# Altium integrated library LT Operational Amplifier.IntLib: 1835 symbols (part 15 of 39)
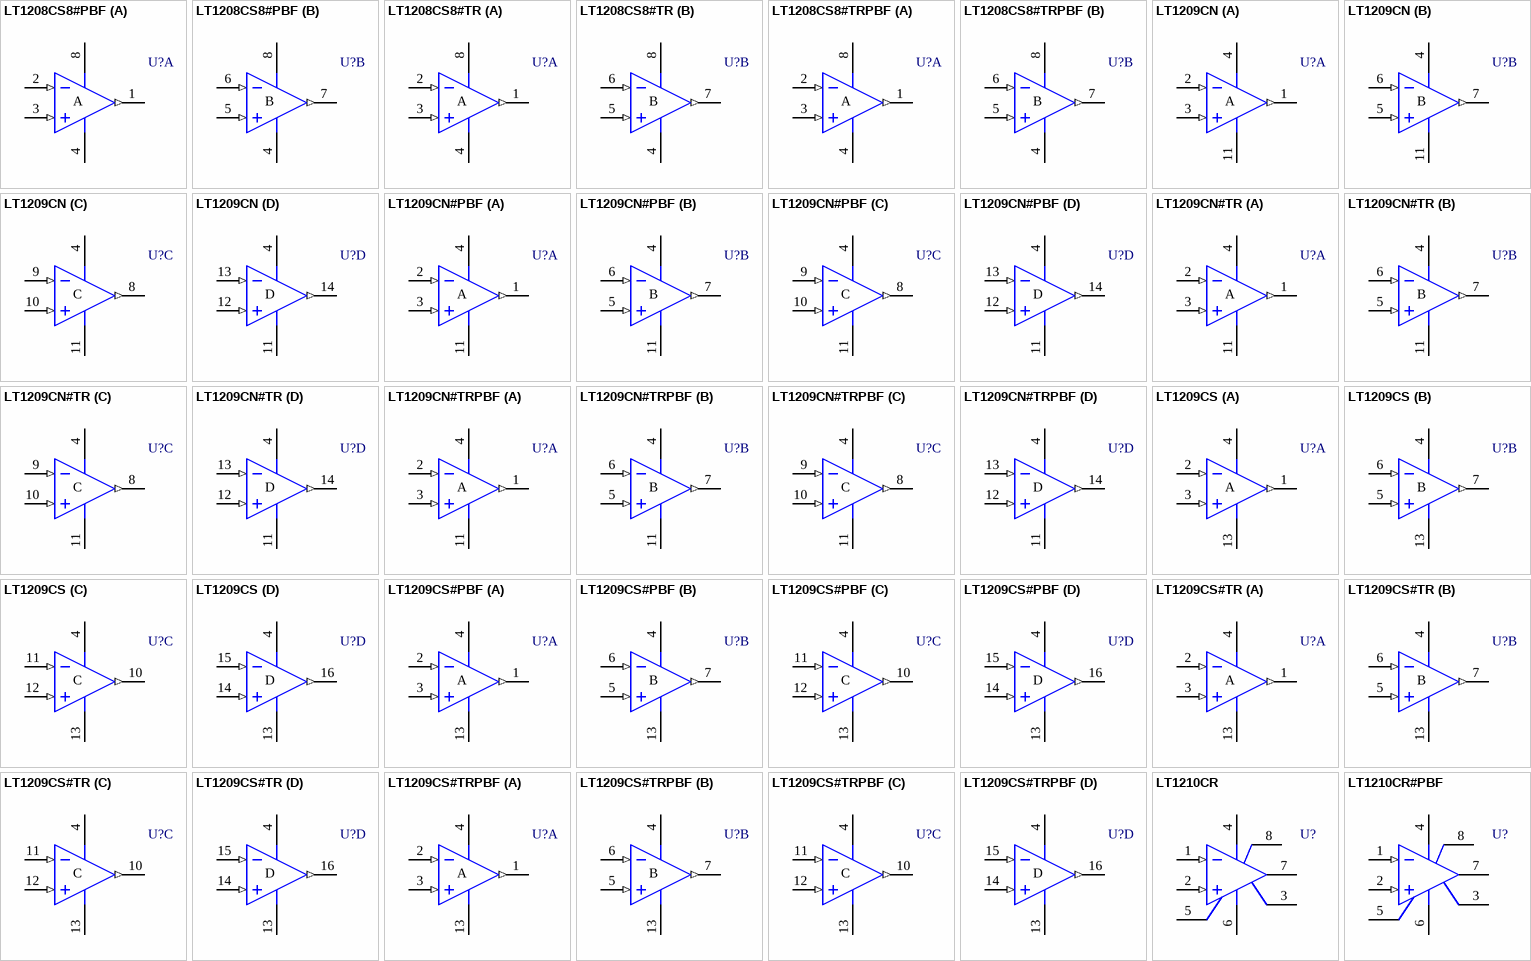
[diagram p101: symbols LT1208CS8#PBF to LT1210CR#PBF]

## LT1208CS8#TR
designator U?
Dual 45MHz, 400V/µs Operational Amplifier; Note: 726; Published: 8-Jun-2000; LatestRevisionDate: 13-Apr-2006; LatestRevisionNote: IPC-7351 Footprint Added.; DatasheetVersion: 1996; PackageReference: S8; Publisher: Altium Limited; PackageDescription: 8-Pin Small Outline Integrated Circuit 1.27 mm Pitch; Code_JEDEC: MS-012-AA; Code_IPC: SOIC127P600-8; ComponentLink1Description: Manufacturer Link; ComponentLink1URL: http://www.linear.com/; ComponentLink2Description: Datasheet; ComponentLink2URL: http://www.linear.com/pc/downloadDocument.do?navId=H0,C1,C1154,C1009,C1022,P1405,D2683
footprint S8_N (SOIC, 8-Leads, Body 4.9x3.9mm, Pitch 1.27mm, IPC Medium Density)
footprint S8_L (SOIC, 8-Leads, Body 4.9x3.9mm, Pitch 1.27mm, IPC High Density)
footprint S8_M (SOIC, 8-Leads, Body 4.9x3.9mm, Pitch 1.27mm, IPC Low Density)
3D model S8 (8-Pin Small Outline Integrated Circuit 1.27 mm Pitch)
simulation model LT1208 (SUBCKT)
pins on every part: 4 V- (power), 8 V+ (power)
part A pins: 1 OUT (out), 2 IN- (in), 3 IN+ (in)
part B pins: 5 IN+ (in), 6 IN- (in), 7 OUT (out)
part A text: A
part B text: B

## LT1208CS8#TRPBF
designator U?
Dual 45MHz, 400V/µs Operational Amplifier; Note: 728; Published: 8-Jun-2000; LatestRevisionDate: 13-Apr-2006; LatestRevisionNote: IPC-7351 Footprint Added.; DatasheetVersion: 1996; PackageReference: S8; Publisher: Altium Limited; PackageDescription: 8-Pin Small Outline Integrated Circuit 1.27 mm Pitch; Code_JEDEC: MS-012-AA; Code_IPC: SOIC127P600-8; ComponentLink1Description: Manufacturer Link; ComponentLink1URL: http://www.linear.com/; ComponentLink2Description: Datasheet; ComponentLink2URL: http://www.linear.com/pc/downloadDocument.do?navId=H0,C1,C1154,C1009,C1022,P1405,D2683
footprint S8_N (SOIC, 8-Leads, Body 4.9x3.9mm, Pitch 1.27mm, IPC Medium Density)
footprint S8_L (SOIC, 8-Leads, Body 4.9x3.9mm, Pitch 1.27mm, IPC High Density)
footprint S8_M (SOIC, 8-Leads, Body 4.9x3.9mm, Pitch 1.27mm, IPC Low Density)
3D model S8 (8-Pin Small Outline Integrated Circuit 1.27 mm Pitch)
simulation model LT1208 (SUBCKT)
pins on every part: 4 V- (power), 8 V+ (power)
part A pins: 1 OUT (out), 2 IN- (in), 3 IN+ (in)
part B pins: 5 IN+ (in), 6 IN- (in), 7 OUT (out)
part A text: A
part B text: B

## LT1209CN
designator U?
Quad 45MHz, 400V/µs Operational Amplifier; Note: 729; Published: 8-Jun-2000; LatestRevisionDate: 29-May-2009; LatestRevisionNote: Component Body Added.; DatasheetVersion: 1996; PackageVersion: N14 1103; PackageReference: N14; Publisher: Altium Limited; PackageDescription: DIP, Plastic, 14-Pin, Row Spacing 7.62 mm, Pitch 2.54 mm; ComponentLink1Description: Manufacturer Link; ComponentLink1URL: http://www.linear.com/; ComponentLink2Description: Datasheet; ComponentLink2URL: http://www.linear.com/pc/downloadDocument.do?navId=H0,C1,C1154,C1009,C1022,P1405,D2683
footprint N14 (DIP, 14-Leads, Row Spacing 7.62mm, Pitch 2.54mm, Body 19.18x6.48mm)
3D model N14 (DIP, Plastic, 14-Pin, Row Spacing 7.62 mm, Pitch 2.54 mm)
simulation model LT1209 (SUBCKT)
pins on every part: 4 V+ (power), 11 V- (power)
part A pins: 1 OUT (out), 2 IN- (in), 3 IN+ (in)
part B pins: 5 IN+ (in), 6 IN- (in), 7 OUT (out)
part C pins: 8 OUT (out), 9 IN- (in), 10 IN+ (in)
part D pins: 12 IN+ (in), 13 IN- (in), 14 OUT (out)
part A text: A
part B text: B
part C text: C
part D text: D

## LT1209CN#PBF
designator U?
Quad 45MHz, 400V/µs Operational Amplifier; Note: 731; Published: 8-Jun-2000; LatestRevisionDate: 29-May-2009; LatestRevisionNote: Component Body Added.; DatasheetVersion: 1996; PackageVersion: N14 1103; PackageReference: N14; Publisher: Altium Limited; PackageDescription: DIP, Plastic, 14-Pin, Row Spacing 7.62 mm, Pitch 2.54 mm; ComponentLink1Description: Manufacturer Link; ComponentLink1URL: http://www.linear.com/; ComponentLink2Description: Datasheet; ComponentLink2URL: http://www.linear.com/pc/downloadDocument.do?navId=H0,C1,C1154,C1009,C1022,P1405,D2683
footprint N14 (DIP, 14-Leads, Row Spacing 7.62mm, Pitch 2.54mm, Body 19.18x6.48mm)
3D model N14 (DIP, Plastic, 14-Pin, Row Spacing 7.62 mm, Pitch 2.54 mm)
simulation model LT1209 (SUBCKT)
pins on every part: 4 V+ (power), 11 V- (power)
part A pins: 1 OUT (out), 2 IN- (in), 3 IN+ (in)
part B pins: 5 IN+ (in), 6 IN- (in), 7 OUT (out)
part C pins: 8 OUT (out), 9 IN- (in), 10 IN+ (in)
part D pins: 12 IN+ (in), 13 IN- (in), 14 OUT (out)
part A text: A
part B text: B
part C text: C
part D text: D

## LT1209CN#TR
designator U?
Quad 45MHz, 400V/µs Operational Amplifier; Note: 730; Published: 8-Jun-2000; LatestRevisionDate: 29-May-2009; LatestRevisionNote: Component Body Added.; DatasheetVersion: 1996; PackageVersion: N14 1103; PackageReference: N14; Publisher: Altium Limited; PackageDescription: DIP, Plastic, 14-Pin, Row Spacing 7.62 mm, Pitch 2.54 mm; ComponentLink1Description: Manufacturer Link; ComponentLink1URL: http://www.linear.com/; ComponentLink2Description: Datasheet; ComponentLink2URL: http://www.linear.com/pc/downloadDocument.do?navId=H0,C1,C1154,C1009,C1022,P1405,D2683
footprint N14 (DIP, 14-Leads, Row Spacing 7.62mm, Pitch 2.54mm, Body 19.18x6.48mm)
3D model N14 (DIP, Plastic, 14-Pin, Row Spacing 7.62 mm, Pitch 2.54 mm)
simulation model LT1209 (SUBCKT)
pins on every part: 4 V+ (power), 11 V- (power)
part A pins: 1 OUT (out), 2 IN- (in), 3 IN+ (in)
part B pins: 5 IN+ (in), 6 IN- (in), 7 OUT (out)
part C pins: 8 OUT (out), 9 IN- (in), 10 IN+ (in)
part D pins: 12 IN+ (in), 13 IN- (in), 14 OUT (out)
part A text: A
part B text: B
part C text: C
part D text: D

## LT1209CN#TRPBF
designator U?
Quad 45MHz, 400V/µs Operational Amplifier; Note: 732; Published: 8-Jun-2000; LatestRevisionDate: 29-May-2009; LatestRevisionNote: Component Body Added.; DatasheetVersion: 1996; PackageVersion: N14 1103; PackageReference: N14; Publisher: Altium Limited; PackageDescription: DIP, Plastic, 14-Pin, Row Spacing 7.62 mm, Pitch 2.54 mm; ComponentLink1Description: Manufacturer Link; ComponentLink1URL: http://www.linear.com/; ComponentLink2Description: Datasheet; ComponentLink2URL: http://www.linear.com/pc/downloadDocument.do?navId=H0,C1,C1154,C1009,C1022,P1405,D2683
footprint N14 (DIP, 14-Leads, Row Spacing 7.62mm, Pitch 2.54mm, Body 19.18x6.48mm)
3D model N14 (DIP, Plastic, 14-Pin, Row Spacing 7.62 mm, Pitch 2.54 mm)
simulation model LT1209 (SUBCKT)
pins on every part: 4 V+ (power), 11 V- (power)
part A pins: 1 OUT (out), 2 IN- (in), 3 IN+ (in)
part B pins: 5 IN+ (in), 6 IN- (in), 7 OUT (out)
part C pins: 8 OUT (out), 9 IN- (in), 10 IN+ (in)
part D pins: 12 IN+ (in), 13 IN- (in), 14 OUT (out)
part A text: A
part B text: B
part C text: C
part D text: D

## LT1209CS
designator U?
Quad 45MHz, 400V/µs Operational Amplifier; Note: Pins 8 and 9 are NC (not internally connected) pins and are not drawn.; Note: 733; Published: 8-Jun-2000; LatestRevisionDate: 13-Apr-2006; LatestRevisionNote: IPC-7351 Footprint Added.; DatasheetVersion: 1996; PackageVersion: S16 0502; PackageReference: S16; Publisher: Altium Limited; PackageDescription: 16-Pin Plastic Small Outline Integrated Circuit 1.27 mm Pitch; Code_JEDEC: MS-012-AC; Code_IPC: SOIC127P600-16; ComponentLink1Description: Manufacturer Link; ComponentLink1URL: http://www.linear.com/; ComponentLink2Description: Datasheet; ComponentLink2URL: http://www.linear.com/pc/downloadDocument.do?navId=H0,C1,C1154,C1009,C1022,P1405,D2683
footprint S16_N (SOIC, 16-Leads, Body 9.9x3.9mm, Pitch 1.27mm, IPC Medium Density)
footprint S16_L (SOIC, 16-Leads, Body 9.9x3.9mm, Pitch 1.27mm, IPC High Density)
footprint S16_M (SOIC, 16-Leads, Body 9.9x3.9mm, Pitch 1.27mm, IPC Low Density)
3D model S16 (16-Pin Plastic Small Outline Integrated Circuit 1.27 mm Pitch)
simulation model LT1209 (SUBCKT)
pins on every part: 4 V+ (power), 13 V- (power)
part A pins: 1 OUT (out), 2 IN- (in), 3 IN+ (in)
part B pins: 5 IN+ (in), 6 IN- (in), 7 OUT (out)
part C pins: 10 OUT (out), 11 IN- (in), 12 IN+ (in)
part D pins: 14 IN+ (in), 15 IN- (in), 16 OUT (out)
part A text: A
part B text: B
part C text: C
part D text: D

## LT1209CS#PBF
designator U?
Quad 45MHz, 400V/µs Operational Amplifier; Note: Pins 8 and 9 are NC (not internally connected) pins and are not drawn.; Note: 735; Published: 8-Jun-2000; LatestRevisionDate: 13-Apr-2006; LatestRevisionNote: IPC-7351 Footprint Added.; DatasheetVersion: 1996; PackageVersion: S16 0502; PackageReference: S16; Publisher: Altium Limited; PackageDescription: 16-Pin Plastic Small Outline Integrated Circuit 1.27 mm Pitch; Code_JEDEC: MS-012-AC; Code_IPC: SOIC127P600-16; ComponentLink1Description: Manufacturer Link; ComponentLink1URL: http://www.linear.com/; ComponentLink2Description: Datasheet; ComponentLink2URL: http://www.linear.com/pc/downloadDocument.do?navId=H0,C1,C1154,C1009,C1022,P1405,D2683
footprint S16_N (SOIC, 16-Leads, Body 9.9x3.9mm, Pitch 1.27mm, IPC Medium Density)
footprint S16_L (SOIC, 16-Leads, Body 9.9x3.9mm, Pitch 1.27mm, IPC High Density)
footprint S16_M (SOIC, 16-Leads, Body 9.9x3.9mm, Pitch 1.27mm, IPC Low Density)
3D model S16 (16-Pin Plastic Small Outline Integrated Circuit 1.27 mm Pitch)
simulation model LT1209 (SUBCKT)
pins on every part: 4 V+ (power), 13 V- (power)
part A pins: 1 OUT (out), 2 IN- (in), 3 IN+ (in)
part B pins: 5 IN+ (in), 6 IN- (in), 7 OUT (out)
part C pins: 10 OUT (out), 11 IN- (in), 12 IN+ (in)
part D pins: 14 IN+ (in), 15 IN- (in), 16 OUT (out)
part A text: A
part B text: B
part C text: C
part D text: D

## LT1209CS#TR
designator U?
Quad 45MHz, 400V/µs Operational Amplifier; Note: Pins 8 and 9 are NC (not internally connected) pins and are not drawn.; Note: 734; Published: 8-Jun-2000; LatestRevisionDate: 13-Apr-2006; LatestRevisionNote: IPC-7351 Footprint Added.; DatasheetVersion: 1996; PackageVersion: S16 0502; PackageReference: S16; Publisher: Altium Limited; PackageDescription: 16-Pin Plastic Small Outline Integrated Circuit 1.27 mm Pitch; Code_JEDEC: MS-012-AC; Code_IPC: SOIC127P600-16; ComponentLink1Description: Manufacturer Link; ComponentLink1URL: http://www.linear.com/; ComponentLink2Description: Datasheet; ComponentLink2URL: http://www.linear.com/pc/downloadDocument.do?navId=H0,C1,C1154,C1009,C1022,P1405,D2683
footprint S16_N (SOIC, 16-Leads, Body 9.9x3.9mm, Pitch 1.27mm, IPC Medium Density)
footprint S16_L (SOIC, 16-Leads, Body 9.9x3.9mm, Pitch 1.27mm, IPC High Density)
footprint S16_M (SOIC, 16-Leads, Body 9.9x3.9mm, Pitch 1.27mm, IPC Low Density)
3D model S16 (16-Pin Plastic Small Outline Integrated Circuit 1.27 mm Pitch)
simulation model LT1209 (SUBCKT)
pins on every part: 4 V+ (power), 13 V- (power)
part A pins: 1 OUT (out), 2 IN- (in), 3 IN+ (in)
part B pins: 5 IN+ (in), 6 IN- (in), 7 OUT (out)
part C pins: 10 OUT (out), 11 IN- (in), 12 IN+ (in)
part D pins: 14 IN+ (in), 15 IN- (in), 16 OUT (out)
part A text: A
part B text: B
part C text: C
part D text: D

## LT1209CS#TRPBF
designator U?
Quad 45MHz, 400V/µs Operational Amplifier; Note: Pins 8 and 9 are NC (not internally connected) pins and are not drawn.; Note: 736; Published: 8-Jun-2000; LatestRevisionDate: 13-Apr-2006; LatestRevisionNote: IPC-7351 Footprint Added.; DatasheetVersion: 1996; PackageVersion: S16 0502; PackageReference: S16; Publisher: Altium Limited; PackageDescription: 16-Pin Plastic Small Outline Integrated Circuit 1.27 mm Pitch; Code_JEDEC: MS-012-AC; Code_IPC: SOIC127P600-16; ComponentLink1Description: Manufacturer Link; ComponentLink1URL: http://www.linear.com/; ComponentLink2Description: Datasheet; ComponentLink2URL: http://www.linear.com/pc/downloadDocument.do?navId=H0,C1,C1154,C1009,C1022,P1405,D2683
footprint S16_N (SOIC, 16-Leads, Body 9.9x3.9mm, Pitch 1.27mm, IPC Medium Density)
footprint S16_L (SOIC, 16-Leads, Body 9.9x3.9mm, Pitch 1.27mm, IPC High Density)
footprint S16_M (SOIC, 16-Leads, Body 9.9x3.9mm, Pitch 1.27mm, IPC Low Density)
3D model S16 (16-Pin Plastic Small Outline Integrated Circuit 1.27 mm Pitch)
simulation model LT1209 (SUBCKT)
pins on every part: 4 V+ (power), 13 V- (power)
part A pins: 1 OUT (out), 2 IN- (in), 3 IN+ (in)
part B pins: 5 IN+ (in), 6 IN- (in), 7 OUT (out)
part C pins: 10 OUT (out), 11 IN- (in), 12 IN+ (in)
part D pins: 14 IN+ (in), 15 IN- (in), 16 OUT (out)
part A text: A
part B text: B
part C text: C
part D text: D

## LT1210CR
designator U?
1.1A, 35MHz Current Feedback Amplifier; Note: TAB is V+.; Note: 737; Published: 8-Jun-2000; LatestRevisionDate: 29-May-2009; LatestRevisionNote: IPC-7351 Footprint Added.; DatasheetVersion: 1996; PackageVersion: Jul-2005; PackageReference: R7; Publisher: Altium Limited; PackageDescription: 7-Pin Transistor Outline Package 1.27 mm Pitch, 13.9 mm Lead Span; ComponentLink1Description: Manufacturer Link; ComponentLink1URL: http://www.linear.com/; ComponentLink2Description: Datasheet; ComponentLink2URL: http://www.linear.com/pc/downloadDocument.do?navId=H0,C1,C1154,C1009,C1146,P1329,D2461
footprint R7_N (D2-PAK, 8-Leads, Body 8.9x10.2mm, Pitch 1.27mm, Lead Span 13.9mm, IPC Medium Density)
footprint R7_L (D2-PAK, 8-Leads, Body 8.9x10.2mm, Pitch 1.27mm, Lead Span 13.9mm, IPC High Density)
footprint R7_M (D2-PAK, 8-Leads, Body 8.9x10.2mm, Pitch 1.27mm, Lead Span 13.9mm, IPC Low Density)
simulation model LT1210 (SUBCKT)
pins: 1 IN- (in), 2 IN+ (in), 3 SD, 4 V+ (power), 5 CMPEN, 6 V- (power), 7 OUT (hiz), 8 TAB (power)

## LT1210CR#PBF
designator U?
1.1A, 35MHz Current Feedback Amplifier; Note: TAB is V+.; Note: 739; Published: 8-Jun-2000; LatestRevisionDate: 29-May-2009; LatestRevisionNote: IPC-7351 Footprint Added.; DatasheetVersion: 1996; PackageVersion: Jul-2005; PackageReference: R7; Publisher: Altium Limited; PackageDescription: 7-Pin Transistor Outline Package 1.27 mm Pitch, 13.9 mm Lead Span; ComponentLink1Description: Manufacturer Link; ComponentLink1URL: http://www.linear.com/; ComponentLink2Description: Datasheet; ComponentLink2URL: http://www.linear.com/pc/downloadDocument.do?navId=H0,C1,C1154,C1009,C1146,P1329,D2461
footprint R7_N (D2-PAK, 8-Leads, Body 8.9x10.2mm, Pitch 1.27mm, Lead Span 13.9mm, IPC Medium Density)
footprint R7_L (D2-PAK, 8-Leads, Body 8.9x10.2mm, Pitch 1.27mm, Lead Span 13.9mm, IPC High Density)
footprint R7_M (D2-PAK, 8-Leads, Body 8.9x10.2mm, Pitch 1.27mm, Lead Span 13.9mm, IPC Low Density)
simulation model LT1210 (SUBCKT)
pins: 1 IN- (in), 2 IN+ (in), 3 SD, 4 V+ (power), 5 CMPEN, 6 V- (power), 7 OUT (hiz), 8 TAB (power)

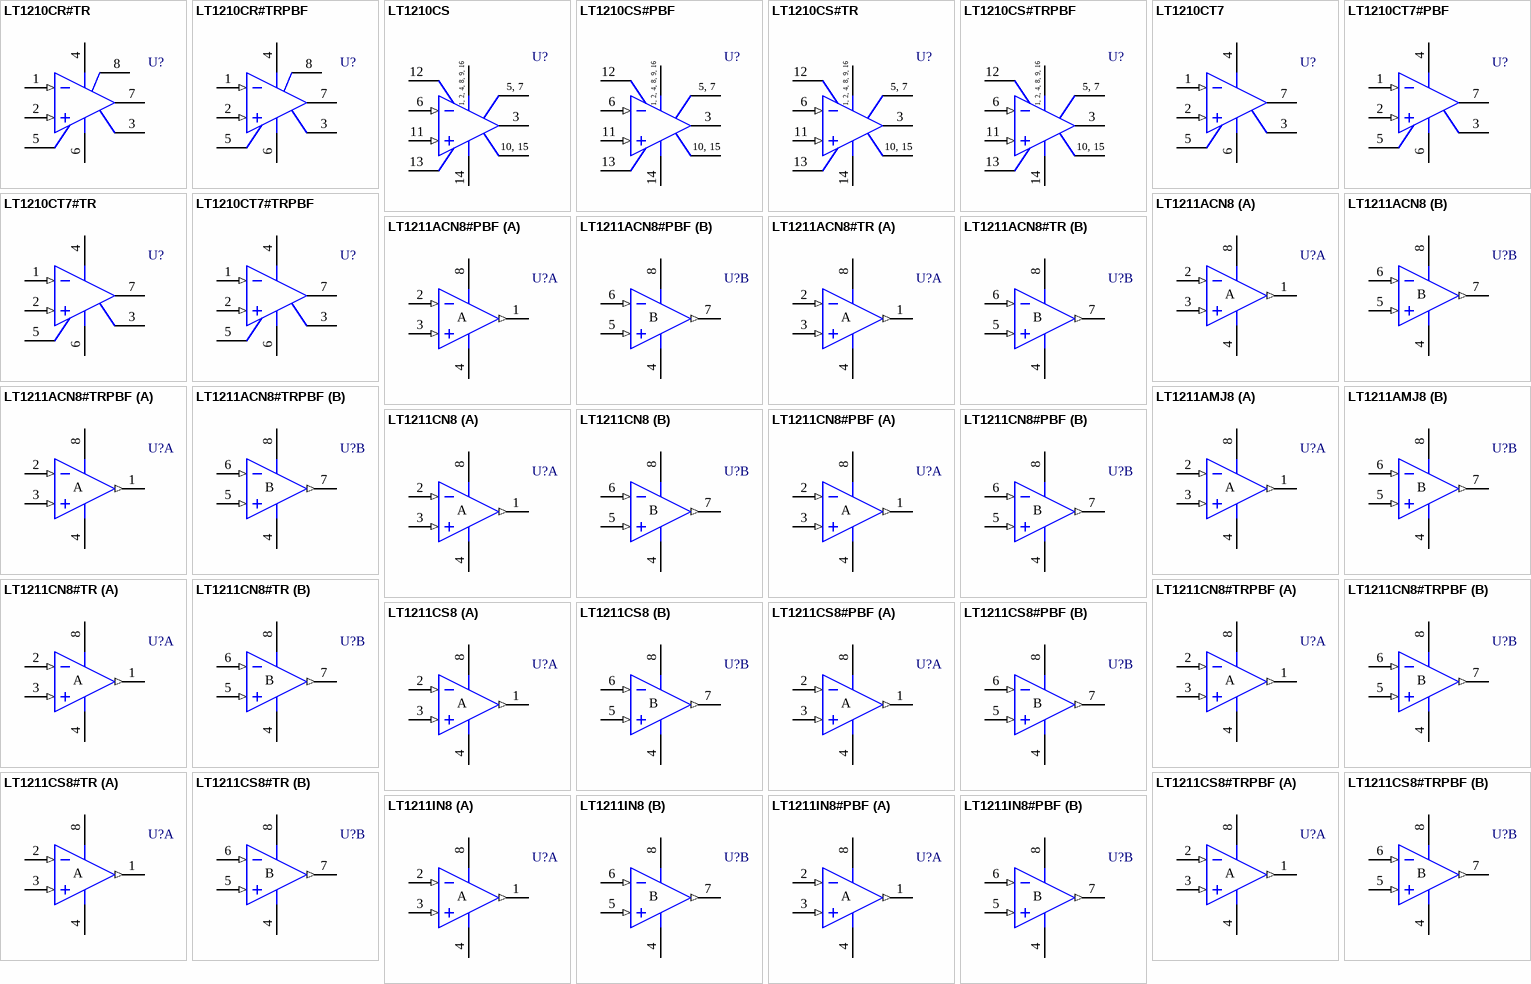
[diagram p32: symbols LT1210CR#TR to LT1211IN8#PBF]

## LT1210CR#TR
designator U?
1.1A, 35MHz Current Feedback Amplifier; Note: TAB is V+.; Note: 738; Published: 8-Jun-2000; LatestRevisionDate: 29-May-2009; LatestRevisionNote: IPC-7351 Footprint Added.; DatasheetVersion: 1996; PackageVersion: Jul-2005; PackageReference: R7; Publisher: Altium Limited; PackageDescription: 7-Pin Transistor Outline Package 1.27 mm Pitch, 13.9 mm Lead Span; ComponentLink1Description: Manufacturer Link; ComponentLink1URL: http://www.linear.com/; ComponentLink2Description: Datasheet; ComponentLink2URL: http://www.linear.com/pc/downloadDocument.do?navId=H0,C1,C1154,C1009,C1146,P1329,D2461
footprint R7_N (D2-PAK, 8-Leads, Body 8.9x10.2mm, Pitch 1.27mm, Lead Span 13.9mm, IPC Medium Density)
footprint R7_L (D2-PAK, 8-Leads, Body 8.9x10.2mm, Pitch 1.27mm, Lead Span 13.9mm, IPC High Density)
footprint R7_M (D2-PAK, 8-Leads, Body 8.9x10.2mm, Pitch 1.27mm, Lead Span 13.9mm, IPC Low Density)
simulation model LT1210 (SUBCKT)
pins: 1 IN- (in), 2 IN+ (in), 3 SD, 4 V+ (power), 5 CMPEN, 6 V- (power), 7 OUT (hiz), 8 TAB (power)

## LT1210CR#TRPBF
designator U?
1.1A, 35MHz Current Feedback Amplifier; Note: TAB is V+.; Note: 740; Published: 8-Jun-2000; LatestRevisionDate: 29-May-2009; LatestRevisionNote: IPC-7351 Footprint Added.; DatasheetVersion: 1996; PackageVersion: Jul-2005; PackageReference: R7; Publisher: Altium Limited; PackageDescription: 7-Pin Transistor Outline Package 1.27 mm Pitch, 13.9 mm Lead Span; ComponentLink1Description: Manufacturer Link; ComponentLink1URL: http://www.linear.com/; ComponentLink2Description: Datasheet; ComponentLink2URL: http://www.linear.com/pc/downloadDocument.do?navId=H0,C1,C1154,C1009,C1146,P1329,D2461
footprint R7_N (D2-PAK, 8-Leads, Body 8.9x10.2mm, Pitch 1.27mm, Lead Span 13.9mm, IPC Medium Density)
footprint R7_L (D2-PAK, 8-Leads, Body 8.9x10.2mm, Pitch 1.27mm, Lead Span 13.9mm, IPC High Density)
footprint R7_M (D2-PAK, 8-Leads, Body 8.9x10.2mm, Pitch 1.27mm, Lead Span 13.9mm, IPC Low Density)
simulation model LT1210 (SUBCKT)
pins: 1 IN- (in), 2 IN+ (in), 3 SD, 4 V+ (power), 5 CMPEN, 6 V- (power), 7 OUT (hiz), 8 TAB (power)

## LT1210CS
designator U?
1.1A, 35MHz Current Feedback Amplifier; Note: Pins 5, 7, 10 and 15 not connected;; Note: 741; Published: 8-Jun-2000; LatestRevisionDate: 13-Apr-2006; LatestRevisionNote: IPC-7351 Footprint Added.; DatasheetVersion: 1996; PackageVersion: S16 0502; PackageReference: S16; Publisher: Altium Limited; PackageDescription: 16-Pin Plastic Small Outline Integrated Circuit 1.27 mm Pitch; Code_JEDEC: MS-012-AC; Code_IPC: SOIC127P600-16; ComponentLink1Description: Manufacturer Link; ComponentLink1URL: http://www.linear.com/; ComponentLink2Description: Datasheet; ComponentLink2URL: http://www.linear.com/pc/downloadDocument.do?navId=H0,C1,C1154,C1009,C1146,P1329,D2461
footprint S16_N (SOIC, 16-Leads, Body 9.9x3.9mm, Pitch 1.27mm, IPC Medium Density)
footprint S16_L (SOIC, 16-Leads, Body 9.9x3.9mm, Pitch 1.27mm, IPC High Density)
footprint S16_M (SOIC, 16-Leads, Body 9.9x3.9mm, Pitch 1.27mm, IPC Low Density)
3D model S16 (16-Pin Plastic Small Outline Integrated Circuit 1.27 mm Pitch)
simulation model LT1210 (SUBCKT)
pins: 1 V+ (power), 2 V+ (power), 3 OUT (hiz), 4 V+ (power), 5 NC, 6 IN- (in), 7 NC, 8 V+ (power), 9 V+ (power), 10 NC, 11 IN+ (in), 12 SD, 13 CMPEN, 14 V- (power), 15 NC, 16 V+ (power)
text: 5, 7; 1, 2, 4, 8, 9, 16; 10, 15

## LT1210CS#PBF
designator U?
1.1A, 35MHz Current Feedback Amplifier; Note: Pins 5, 7, 10 and 15 not connected;; Note: 743; Published: 8-Jun-2000; LatestRevisionDate: 13-Apr-2006; LatestRevisionNote: IPC-7351 Footprint Added.; DatasheetVersion: 1996; PackageVersion: S16 0502; PackageReference: S16; Publisher: Altium Limited; PackageDescription: 16-Pin Plastic Small Outline Integrated Circuit 1.27 mm Pitch; Code_JEDEC: MS-012-AC; Code_IPC: SOIC127P600-16; ComponentLink1Description: Manufacturer Link; ComponentLink1URL: http://www.linear.com/; ComponentLink2Description: Datasheet; ComponentLink2URL: http://www.linear.com/pc/downloadDocument.do?navId=H0,C1,C1154,C1009,C1146,P1329,D2461
footprint S16_N (SOIC, 16-Leads, Body 9.9x3.9mm, Pitch 1.27mm, IPC Medium Density)
footprint S16_L (SOIC, 16-Leads, Body 9.9x3.9mm, Pitch 1.27mm, IPC High Density)
footprint S16_M (SOIC, 16-Leads, Body 9.9x3.9mm, Pitch 1.27mm, IPC Low Density)
3D model S16 (16-Pin Plastic Small Outline Integrated Circuit 1.27 mm Pitch)
simulation model LT1210 (SUBCKT)
pins: 1 V+ (power), 2 V+ (power), 3 OUT (hiz), 4 V+ (power), 5 NC, 6 IN- (in), 7 NC, 8 V+ (power), 9 V+ (power), 10 NC, 11 IN+ (in), 12 SD, 13 CMPEN, 14 V- (power), 15 NC, 16 V+ (power)
text: 5, 7; 1, 2, 4, 8, 9, 16; 10, 15

## LT1210CS#TR
designator U?
1.1A, 35MHz Current Feedback Amplifier; Note: Pins 5, 7, 10 and 15 not connected;; Note: 742; Published: 8-Jun-2000; LatestRevisionDate: 13-Apr-2006; LatestRevisionNote: IPC-7351 Footprint Added.; DatasheetVersion: 1996; PackageVersion: S16 0502; PackageReference: S16; Publisher: Altium Limited; PackageDescription: 16-Pin Plastic Small Outline Integrated Circuit 1.27 mm Pitch; Code_JEDEC: MS-012-AC; Code_IPC: SOIC127P600-16; ComponentLink1Description: Manufacturer Link; ComponentLink1URL: http://www.linear.com/; ComponentLink2Description: Datasheet; ComponentLink2URL: http://www.linear.com/pc/downloadDocument.do?navId=H0,C1,C1154,C1009,C1146,P1329,D2461
footprint S16_N (SOIC, 16-Leads, Body 9.9x3.9mm, Pitch 1.27mm, IPC Medium Density)
footprint S16_L (SOIC, 16-Leads, Body 9.9x3.9mm, Pitch 1.27mm, IPC High Density)
footprint S16_M (SOIC, 16-Leads, Body 9.9x3.9mm, Pitch 1.27mm, IPC Low Density)
3D model S16 (16-Pin Plastic Small Outline Integrated Circuit 1.27 mm Pitch)
simulation model LT1210 (SUBCKT)
pins: 1 V+ (power), 2 V+ (power), 3 OUT (hiz), 4 V+ (power), 5 NC, 6 IN- (in), 7 NC, 8 V+ (power), 9 V+ (power), 10 NC, 11 IN+ (in), 12 SD, 13 CMPEN, 14 V- (power), 15 NC, 16 V+ (power)
text: 5, 7; 1, 2, 4, 8, 9, 16; 10, 15

## LT1210CS#TRPBF
designator U?
1.1A, 35MHz Current Feedback Amplifier; Note: Pins 5, 7, 10 and 15 not connected;; Note: 744; Published: 8-Jun-2000; LatestRevisionDate: 13-Apr-2006; LatestRevisionNote: IPC-7351 Footprint Added.; DatasheetVersion: 1996; PackageVersion: S16 0502; PackageReference: S16; Publisher: Altium Limited; PackageDescription: 16-Pin Plastic Small Outline Integrated Circuit 1.27 mm Pitch; Code_JEDEC: MS-012-AC; Code_IPC: SOIC127P600-16; ComponentLink1Description: Manufacturer Link; ComponentLink1URL: http://www.linear.com/; ComponentLink2Description: Datasheet; ComponentLink2URL: http://www.linear.com/pc/downloadDocument.do?navId=H0,C1,C1154,C1009,C1146,P1329,D2461
footprint S16_N (SOIC, 16-Leads, Body 9.9x3.9mm, Pitch 1.27mm, IPC Medium Density)
footprint S16_L (SOIC, 16-Leads, Body 9.9x3.9mm, Pitch 1.27mm, IPC High Density)
footprint S16_M (SOIC, 16-Leads, Body 9.9x3.9mm, Pitch 1.27mm, IPC Low Density)
3D model S16 (16-Pin Plastic Small Outline Integrated Circuit 1.27 mm Pitch)
simulation model LT1210 (SUBCKT)
pins: 1 V+ (power), 2 V+ (power), 3 OUT (hiz), 4 V+ (power), 5 NC, 6 IN- (in), 7 NC, 8 V+ (power), 9 V+ (power), 10 NC, 11 IN+ (in), 12 SD, 13 CMPEN, 14 V- (power), 15 NC, 16 V+ (power)
text: 5, 7; 1, 2, 4, 8, 9, 16; 10, 15

## LT1210CT7
designator U?
1.1A, 35MHz Current Feedback Amplifier; Note: TAB is V+.; Note: 745; Published: 8-Jun-2000; LatestRevisionDate: 17-Jul-2002; LatestRevisionNote: PCB replaced; Re-released for DXP Platform.; DatasheetVersion: 1996; PackageReference: T7; Publisher: Altium Limited; PackageDescription: TO, Thru-Hole, Vertical, Heatsink Mounted; 7 Bent Staggered Leads; Pitch 1.27 mm; ComponentLink1Description: Manufacturer Link; ComponentLink1URL: http://www.linear.com/; ComponentLink2Description: Datasheet; ComponentLink2URL: http://www.linear.com/pc/downloadDocument.do?navId=H0,C1,C1154,C1009,C1146,P1329,D2461
footprint T7 (TO, Thru-Hole, Vertical, Heatsink Mounted; 7 Bent Staggered Leads; Pitch 1.27 mm)
simulation model LT1210 (SUBCKT)
pins: 1 IN- (in), 2 IN+ (in), 3 SD, 4 V+ (power), 5 CMPEN, 6 V- (power), 7 OUT (hiz)

## LT1210CT7#PBF
designator U?
1.1A, 35MHz Current Feedback Amplifier; Note: TAB is V+.; Note: 747; Published: 8-Jun-2000; LatestRevisionDate: 17-Jul-2002; LatestRevisionNote: PCB replaced; Re-released for DXP Platform.; DatasheetVersion: 1996; PackageReference: T7; Publisher: Altium Limited; PackageDescription: TO, Thru-Hole, Vertical, Heatsink Mounted; 7 Bent Staggered Leads; Pitch 1.27 mm; ComponentLink1Description: Manufacturer Link; ComponentLink1URL: http://www.linear.com/; ComponentLink2Description: Datasheet; ComponentLink2URL: http://www.linear.com/pc/downloadDocument.do?navId=H0,C1,C1154,C1009,C1146,P1329,D2461
footprint T7 (TO, Thru-Hole, Vertical, Heatsink Mounted; 7 Bent Staggered Leads; Pitch 1.27 mm)
simulation model LT1210 (SUBCKT)
pins: 1 IN- (in), 2 IN+ (in), 3 SD, 4 V+ (power), 5 CMPEN, 6 V- (power), 7 OUT (hiz)

## LT1210CT7#TR
designator U?
1.1A, 35MHz Current Feedback Amplifier; Note: TAB is V+.; Note: 746; Published: 8-Jun-2000; LatestRevisionDate: 17-Jul-2002; LatestRevisionNote: PCB replaced; Re-released for DXP Platform.; DatasheetVersion: 1996; PackageReference: T7; Publisher: Altium Limited; PackageDescription: TO, Thru-Hole, Vertical, Heatsink Mounted; 7 Bent Staggered Leads; Pitch 1.27 mm; ComponentLink1Description: Manufacturer Link; ComponentLink1URL: http://www.linear.com/; ComponentLink2Description: Datasheet; ComponentLink2URL: http://www.linear.com/pc/downloadDocument.do?navId=H0,C1,C1154,C1009,C1146,P1329,D2461
footprint T7 (TO, Thru-Hole, Vertical, Heatsink Mounted; 7 Bent Staggered Leads; Pitch 1.27 mm)
simulation model LT1210 (SUBCKT)
pins: 1 IN- (in), 2 IN+ (in), 3 SD, 4 V+ (power), 5 CMPEN, 6 V- (power), 7 OUT (hiz)

## LT1210CT7#TRPBF
designator U?
1.1A, 35MHz Current Feedback Amplifier; Note: TAB is V+.; Note: 748; Published: 8-Jun-2000; LatestRevisionDate: 17-Jul-2002; LatestRevisionNote: PCB replaced; Re-released for DXP Platform.; DatasheetVersion: 1996; PackageReference: T7; Publisher: Altium Limited; PackageDescription: TO, Thru-Hole, Vertical, Heatsink Mounted; 7 Bent Staggered Leads; Pitch 1.27 mm; ComponentLink1Description: Manufacturer Link; ComponentLink1URL: http://www.linear.com/; ComponentLink2Description: Datasheet; ComponentLink2URL: http://www.linear.com/pc/downloadDocument.do?navId=H0,C1,C1154,C1009,C1146,P1329,D2461
footprint T7 (TO, Thru-Hole, Vertical, Heatsink Mounted; 7 Bent Staggered Leads; Pitch 1.27 mm)
simulation model LT1210 (SUBCKT)
pins: 1 IN- (in), 2 IN+ (in), 3 SD, 4 V+ (power), 5 CMPEN, 6 V- (power), 7 OUT (hiz)

## LT1211ACN8
designator U?
14MHz, 7V/µs, Single Supply Dual Precision Operational Amplifier; Note: 749; Published: 8-Jun-2000; LatestRevisionDate: 29-May-2009; LatestRevisionNote: Component Body Added.; DatasheetVersion: 1996; PackageVersion: N8 1002; PackageReference: N8; Publisher: Altium Limited; PackageDescription: DIP, Plastic, 8-Pin, Row Spacing 7.62 mm, Pitch 2.54 mm; ComponentLink1Description: Manufacturer Link; ComponentLink1URL: http://www.linear.com/; ComponentLink2Description: Datasheet; ComponentLink2URL: http://www.linear.com/pc/downloadDocument.do?navId=H0,C1,C1154,C1009,C1021,P1407,D1061
footprint N8 (DIP, 8-Leads, Row Spacing 7.62mm, Pitch 2.54mm, Body 9.78x6.48mm)
3D model N8 (DIP, Plastic, 8-Pin, Row Spacing 7.62 mm, Pitch 2.54 mm)
pins on every part: 4 V- (power), 8 V+ (power)
part A pins: 1 OUT (out), 2 IN- (in), 3 IN+ (in)
part B pins: 5 IN+ (in), 6 IN- (in), 7 OUT (out)
part A text: A
part B text: B

## LT1211ACN8#PBF
designator U?
14MHz, 7V/µs, Single Supply Dual Precision Operational Amplifier; Note: 751; Published: 8-Jun-2000; LatestRevisionDate: 29-May-2009; LatestRevisionNote: Component Body Added.; DatasheetVersion: 1996; PackageVersion: N8 1002; PackageReference: N8; Publisher: Altium Limited; PackageDescription: DIP, Plastic, 8-Pin, Row Spacing 7.62 mm, Pitch 2.54 mm; ComponentLink1Description: Manufacturer Link; ComponentLink1URL: http://www.linear.com/; ComponentLink2Description: Datasheet; ComponentLink2URL: http://www.linear.com/pc/downloadDocument.do?navId=H0,C1,C1154,C1009,C1021,P1407,D1061
footprint N8 (DIP, 8-Leads, Row Spacing 7.62mm, Pitch 2.54mm, Body 9.78x6.48mm)
3D model N8 (DIP, Plastic, 8-Pin, Row Spacing 7.62 mm, Pitch 2.54 mm)
pins on every part: 4 V- (power), 8 V+ (power)
part A pins: 1 OUT (out), 2 IN- (in), 3 IN+ (in)
part B pins: 5 IN+ (in), 6 IN- (in), 7 OUT (out)
part A text: A
part B text: B

## LT1211ACN8#TR
designator U?
14MHz, 7V/µs, Single Supply Dual Precision Operational Amplifier; Note: 750; Published: 8-Jun-2000; LatestRevisionDate: 29-May-2009; LatestRevisionNote: Component Body Added.; DatasheetVersion: 1996; PackageVersion: N8 1002; PackageReference: N8; Publisher: Altium Limited; PackageDescription: DIP, Plastic, 8-Pin, Row Spacing 7.62 mm, Pitch 2.54 mm; ComponentLink1Description: Manufacturer Link; ComponentLink1URL: http://www.linear.com/; ComponentLink2Description: Datasheet; ComponentLink2URL: http://www.linear.com/pc/downloadDocument.do?navId=H0,C1,C1154,C1009,C1021,P1407,D1061
footprint N8 (DIP, 8-Leads, Row Spacing 7.62mm, Pitch 2.54mm, Body 9.78x6.48mm)
3D model N8 (DIP, Plastic, 8-Pin, Row Spacing 7.62 mm, Pitch 2.54 mm)
pins on every part: 4 V- (power), 8 V+ (power)
part A pins: 1 OUT (out), 2 IN- (in), 3 IN+ (in)
part B pins: 5 IN+ (in), 6 IN- (in), 7 OUT (out)
part A text: A
part B text: B

## LT1211ACN8#TRPBF
designator U?
14MHz, 7V/µs, Single Supply Dual Precision Operational Amplifier; Note: 752; Published: 8-Jun-2000; LatestRevisionDate: 29-May-2009; LatestRevisionNote: Component Body Added.; DatasheetVersion: 1996; PackageVersion: N8 1002; PackageReference: N8; Publisher: Altium Limited; PackageDescription: DIP, Plastic, 8-Pin, Row Spacing 7.62 mm, Pitch 2.54 mm; ComponentLink1Description: Manufacturer Link; ComponentLink1URL: http://www.linear.com/; ComponentLink2Description: Datasheet; ComponentLink2URL: http://www.linear.com/pc/downloadDocument.do?navId=H0,C1,C1154,C1009,C1021,P1407,D1061
footprint N8 (DIP, 8-Leads, Row Spacing 7.62mm, Pitch 2.54mm, Body 9.78x6.48mm)
3D model N8 (DIP, Plastic, 8-Pin, Row Spacing 7.62 mm, Pitch 2.54 mm)
pins on every part: 4 V- (power), 8 V+ (power)
part A pins: 1 OUT (out), 2 IN- (in), 3 IN+ (in)
part B pins: 5 IN+ (in), 6 IN- (in), 7 OUT (out)
part A text: A
part B text: B

## LT1211AMJ8
designator U?
14MHz, 7V/µs, Single Supply Dual Precision Operational Amplifier; Note: 753; Published: 8-Jun-2000; LatestRevisionDate: 29-May-2009; LatestRevisionNote: Component Body Added.; DatasheetVersion: 1996; PackageVersion: J8 0801; PackageReference: J8; Publisher: Altium Limited; PackageDescription: DIP, Ceramic, 8-Pin, Row Spacing 7.62 mm, Pitch 2.54 mm; ComponentLink1Description: Manufacturer Link; ComponentLink1URL: http://www.linear.com/; ComponentLink2Description: Datasheet; ComponentLink2URL: http://www.linear.com/pc/downloadDocument.do?navId=H0,C1,C1154,C1009,C1021,P1407,D1061
footprint J8 (DIP, 8-Leads, Row Spacing 7.62mm, Pitch 2.54mm, Body 9.89x6.73mm)
3D model J8 (DIP, Ceramic, 8-Pin, Row Spacing 7.62 mm, Pitch 2.54 mm)
pins on every part: 4 V- (power), 8 V+ (power)
part A pins: 1 OUT (out), 2 IN- (in), 3 IN+ (in)
part B pins: 5 IN+ (in), 6 IN- (in), 7 OUT (out)
part A text: A
part B text: B

## LT1211CN8
designator U?
14MHz, 7V/µs, Single Supply Dual Precision Operational Amplifier; Note: 754; Published: 8-Jun-2000; LatestRevisionDate: 29-May-2009; LatestRevisionNote: Component Body Added.; DatasheetVersion: 1996; PackageVersion: N8 1002; PackageReference: N8; Publisher: Altium Limited; PackageDescription: DIP, Plastic, 8-Pin, Row Spacing 7.62 mm, Pitch 2.54 mm; ComponentLink1Description: Manufacturer Link; ComponentLink1URL: http://www.linear.com/; ComponentLink2Description: Datasheet; ComponentLink2URL: http://www.linear.com/pc/downloadDocument.do?navId=H0,C1,C1154,C1009,C1021,P1407,D1061
footprint N8 (DIP, 8-Leads, Row Spacing 7.62mm, Pitch 2.54mm, Body 9.78x6.48mm)
3D model N8 (DIP, Plastic, 8-Pin, Row Spacing 7.62 mm, Pitch 2.54 mm)
pins on every part: 4 V- (power), 8 V+ (power)
part A pins: 1 OUT (out), 2 IN- (in), 3 IN+ (in)
part B pins: 5 IN+ (in), 6 IN- (in), 7 OUT (out)
part A text: A
part B text: B

## LT1211CN8#PBF
designator U?
14MHz, 7V/µs, Single Supply Dual Precision Operational Amplifier; Note: 756; Published: 8-Jun-2000; LatestRevisionDate: 29-May-2009; LatestRevisionNote: Component Body Added.; DatasheetVersion: 1996; PackageVersion: N8 1002; PackageReference: N8; Publisher: Altium Limited; PackageDescription: DIP, Plastic, 8-Pin, Row Spacing 7.62 mm, Pitch 2.54 mm; ComponentLink1Description: Manufacturer Link; ComponentLink1URL: http://www.linear.com/; ComponentLink2Description: Datasheet; ComponentLink2URL: http://www.linear.com/pc/downloadDocument.do?navId=H0,C1,C1154,C1009,C1021,P1407,D1061
footprint N8 (DIP, 8-Leads, Row Spacing 7.62mm, Pitch 2.54mm, Body 9.78x6.48mm)
3D model N8 (DIP, Plastic, 8-Pin, Row Spacing 7.62 mm, Pitch 2.54 mm)
pins on every part: 4 V- (power), 8 V+ (power)
part A pins: 1 OUT (out), 2 IN- (in), 3 IN+ (in)
part B pins: 5 IN+ (in), 6 IN- (in), 7 OUT (out)
part A text: A
part B text: B

## LT1211CN8#TR
designator U?
14MHz, 7V/µs, Single Supply Dual Precision Operational Amplifier; Note: 755; Published: 8-Jun-2000; LatestRevisionDate: 29-May-2009; LatestRevisionNote: Component Body Added.; DatasheetVersion: 1996; PackageVersion: N8 1002; PackageReference: N8; Publisher: Altium Limited; PackageDescription: DIP, Plastic, 8-Pin, Row Spacing 7.62 mm, Pitch 2.54 mm; ComponentLink1Description: Manufacturer Link; ComponentLink1URL: http://www.linear.com/; ComponentLink2Description: Datasheet; ComponentLink2URL: http://www.linear.com/pc/downloadDocument.do?navId=H0,C1,C1154,C1009,C1021,P1407,D1061
footprint N8 (DIP, 8-Leads, Row Spacing 7.62mm, Pitch 2.54mm, Body 9.78x6.48mm)
3D model N8 (DIP, Plastic, 8-Pin, Row Spacing 7.62 mm, Pitch 2.54 mm)
pins on every part: 4 V- (power), 8 V+ (power)
part A pins: 1 OUT (out), 2 IN- (in), 3 IN+ (in)
part B pins: 5 IN+ (in), 6 IN- (in), 7 OUT (out)
part A text: A
part B text: B

## LT1211CN8#TRPBF
designator U?
14MHz, 7V/µs, Single Supply Dual Precision Operational Amplifier; Note: 757; Published: 8-Jun-2000; LatestRevisionDate: 29-May-2009; LatestRevisionNote: Component Body Added.; DatasheetVersion: 1996; PackageVersion: N8 1002; PackageReference: N8; Publisher: Altium Limited; PackageDescription: DIP, Plastic, 8-Pin, Row Spacing 7.62 mm, Pitch 2.54 mm; ComponentLink1Description: Manufacturer Link; ComponentLink1URL: http://www.linear.com/; ComponentLink2Description: Datasheet; ComponentLink2URL: http://www.linear.com/pc/downloadDocument.do?navId=H0,C1,C1154,C1009,C1021,P1407,D1061
footprint N8 (DIP, 8-Leads, Row Spacing 7.62mm, Pitch 2.54mm, Body 9.78x6.48mm)
3D model N8 (DIP, Plastic, 8-Pin, Row Spacing 7.62 mm, Pitch 2.54 mm)
pins on every part: 4 V- (power), 8 V+ (power)
part A pins: 1 OUT (out), 2 IN- (in), 3 IN+ (in)
part B pins: 5 IN+ (in), 6 IN- (in), 7 OUT (out)
part A text: A
part B text: B

## LT1211CS8
designator U?
14MHz, 7V/µs, Single Supply Dual Precision Operational Amplifier; Note: 758; Published: 8-Jun-2000; LatestRevisionDate: 13-Apr-2006; LatestRevisionNote: IPC-7351 Footprint Added.; DatasheetVersion: 1996; PackageReference: S8; Publisher: Altium Limited; PackageDescription: 8-Pin Small Outline Integrated Circuit 1.27 mm Pitch; Code_JEDEC: MS-012-AA; Code_IPC: SOIC127P600-8; ComponentLink1Description: Manufacturer Link; ComponentLink1URL: http://www.linear.com/; ComponentLink2Description: Datasheet; ComponentLink2URL: http://www.linear.com/pc/downloadDocument.do?navId=H0,C1,C1154,C1009,C1021,P1407,D1061
footprint S8_N (SOIC, 8-Leads, Body 4.9x3.9mm, Pitch 1.27mm, IPC Medium Density)
footprint S8_L (SOIC, 8-Leads, Body 4.9x3.9mm, Pitch 1.27mm, IPC High Density)
footprint S8_M (SOIC, 8-Leads, Body 4.9x3.9mm, Pitch 1.27mm, IPC Low Density)
3D model S8 (8-Pin Small Outline Integrated Circuit 1.27 mm Pitch)
pins on every part: 4 V- (power), 8 V+ (power)
part A pins: 1 OUT (out), 2 IN- (in), 3 IN+ (in)
part B pins: 5 IN+ (in), 6 IN- (in), 7 OUT (out)
part A text: A
part B text: B

## LT1211CS8#PBF
designator U?
14MHz, 7V/µs, Single Supply Dual Precision Operational Amplifier; Note: 760; Published: 8-Jun-2000; LatestRevisionDate: 13-Apr-2006; LatestRevisionNote: IPC-7351 Footprint Added.; DatasheetVersion: 1996; PackageReference: S8; Publisher: Altium Limited; PackageDescription: 8-Pin Small Outline Integrated Circuit 1.27 mm Pitch; Code_JEDEC: MS-012-AA; Code_IPC: SOIC127P600-8; ComponentLink1Description: Manufacturer Link; ComponentLink1URL: http://www.linear.com/; ComponentLink2Description: Datasheet; ComponentLink2URL: http://www.linear.com/pc/downloadDocument.do?navId=H0,C1,C1154,C1009,C1021,P1407,D1061
footprint S8_N (SOIC, 8-Leads, Body 4.9x3.9mm, Pitch 1.27mm, IPC Medium Density)
footprint S8_L (SOIC, 8-Leads, Body 4.9x3.9mm, Pitch 1.27mm, IPC High Density)
footprint S8_M (SOIC, 8-Leads, Body 4.9x3.9mm, Pitch 1.27mm, IPC Low Density)
3D model S8 (8-Pin Small Outline Integrated Circuit 1.27 mm Pitch)
pins on every part: 4 V- (power), 8 V+ (power)
part A pins: 1 OUT (out), 2 IN- (in), 3 IN+ (in)
part B pins: 5 IN+ (in), 6 IN- (in), 7 OUT (out)
part A text: A
part B text: B

## LT1211CS8#TR
designator U?
14MHz, 7V/µs, Single Supply Dual Precision Operational Amplifier; Note: 759; Published: 8-Jun-2000; LatestRevisionDate: 13-Apr-2006; LatestRevisionNote: IPC-7351 Footprint Added.; DatasheetVersion: 1996; PackageReference: S8; Publisher: Altium Limited; PackageDescription: 8-Pin Small Outline Integrated Circuit 1.27 mm Pitch; Code_JEDEC: MS-012-AA; Code_IPC: SOIC127P600-8; ComponentLink1Description: Manufacturer Link; ComponentLink1URL: http://www.linear.com/; ComponentLink2Description: Datasheet; ComponentLink2URL: http://www.linear.com/pc/downloadDocument.do?navId=H0,C1,C1154,C1009,C1021,P1407,D1061
footprint S8_N (SOIC, 8-Leads, Body 4.9x3.9mm, Pitch 1.27mm, IPC Medium Density)
footprint S8_L (SOIC, 8-Leads, Body 4.9x3.9mm, Pitch 1.27mm, IPC High Density)
footprint S8_M (SOIC, 8-Leads, Body 4.9x3.9mm, Pitch 1.27mm, IPC Low Density)
3D model S8 (8-Pin Small Outline Integrated Circuit 1.27 mm Pitch)
pins on every part: 4 V- (power), 8 V+ (power)
part A pins: 1 OUT (out), 2 IN- (in), 3 IN+ (in)
part B pins: 5 IN+ (in), 6 IN- (in), 7 OUT (out)
part A text: A
part B text: B

## LT1211CS8#TRPBF
designator U?
14MHz, 7V/µs, Single Supply Dual Precision Operational Amplifier; Note: 761; Published: 8-Jun-2000; LatestRevisionDate: 13-Apr-2006; LatestRevisionNote: IPC-7351 Footprint Added.; DatasheetVersion: 1996; PackageReference: S8; Publisher: Altium Limited; PackageDescription: 8-Pin Small Outline Integrated Circuit 1.27 mm Pitch; Code_JEDEC: MS-012-AA; Code_IPC: SOIC127P600-8; ComponentLink1Description: Manufacturer Link; ComponentLink1URL: http://www.linear.com/; ComponentLink2Description: Datasheet; ComponentLink2URL: http://www.linear.com/pc/downloadDocument.do?navId=H0,C1,C1154,C1009,C1021,P1407,D1061
footprint S8_N (SOIC, 8-Leads, Body 4.9x3.9mm, Pitch 1.27mm, IPC Medium Density)
footprint S8_L (SOIC, 8-Leads, Body 4.9x3.9mm, Pitch 1.27mm, IPC High Density)
footprint S8_M (SOIC, 8-Leads, Body 4.9x3.9mm, Pitch 1.27mm, IPC Low Density)
3D model S8 (8-Pin Small Outline Integrated Circuit 1.27 mm Pitch)
pins on every part: 4 V- (power), 8 V+ (power)
part A pins: 1 OUT (out), 2 IN- (in), 3 IN+ (in)
part B pins: 5 IN+ (in), 6 IN- (in), 7 OUT (out)
part A text: A
part B text: B

## LT1211IN8
designator U?
14MHz, 7V/µs, Single Supply Dual Precision Operational Amplifier; Note: 762; Published: 8-Jun-2000; LatestRevisionDate: 29-May-2009; LatestRevisionNote: Component Body Added.; DatasheetVersion: 1996; PackageVersion: N8 1002; PackageReference: N8; Publisher: Altium Limited; PackageDescription: DIP, Plastic, 8-Pin, Row Spacing 7.62 mm, Pitch 2.54 mm; ComponentLink1Description: Manufacturer Link; ComponentLink1URL: http://www.linear.com/; ComponentLink2Description: Datasheet; ComponentLink2URL: http://www.linear.com/pc/downloadDocument.do?navId=H0,C1,C1154,C1009,C1021,P1407,D1061
footprint N8 (DIP, 8-Leads, Row Spacing 7.62mm, Pitch 2.54mm, Body 9.78x6.48mm)
3D model N8 (DIP, Plastic, 8-Pin, Row Spacing 7.62 mm, Pitch 2.54 mm)
pins on every part: 4 V- (power), 8 V+ (power)
part A pins: 1 OUT (out), 2 IN- (in), 3 IN+ (in)
part B pins: 5 IN+ (in), 6 IN- (in), 7 OUT (out)
part A text: A
part B text: B

## LT1211IN8#PBF
designator U?
14MHz, 7V/µs, Single Supply Dual Precision Operational Amplifier; Note: 764; Published: 8-Jun-2000; LatestRevisionDate: 29-May-2009; LatestRevisionNote: Component Body Added.; DatasheetVersion: 1996; PackageVersion: N8 1002; PackageReference: N8; Publisher: Altium Limited; PackageDescription: DIP, Plastic, 8-Pin, Row Spacing 7.62 mm, Pitch 2.54 mm; ComponentLink1Description: Manufacturer Link; ComponentLink1URL: http://www.linear.com/; ComponentLink2Description: Datasheet; ComponentLink2URL: http://www.linear.com/pc/downloadDocument.do?navId=H0,C1,C1154,C1009,C1021,P1407,D1061
footprint N8 (DIP, 8-Leads, Row Spacing 7.62mm, Pitch 2.54mm, Body 9.78x6.48mm)
3D model N8 (DIP, Plastic, 8-Pin, Row Spacing 7.62 mm, Pitch 2.54 mm)
pins on every part: 4 V- (power), 8 V+ (power)
part A pins: 1 OUT (out), 2 IN- (in), 3 IN+ (in)
part B pins: 5 IN+ (in), 6 IN- (in), 7 OUT (out)
part A text: A
part B text: B

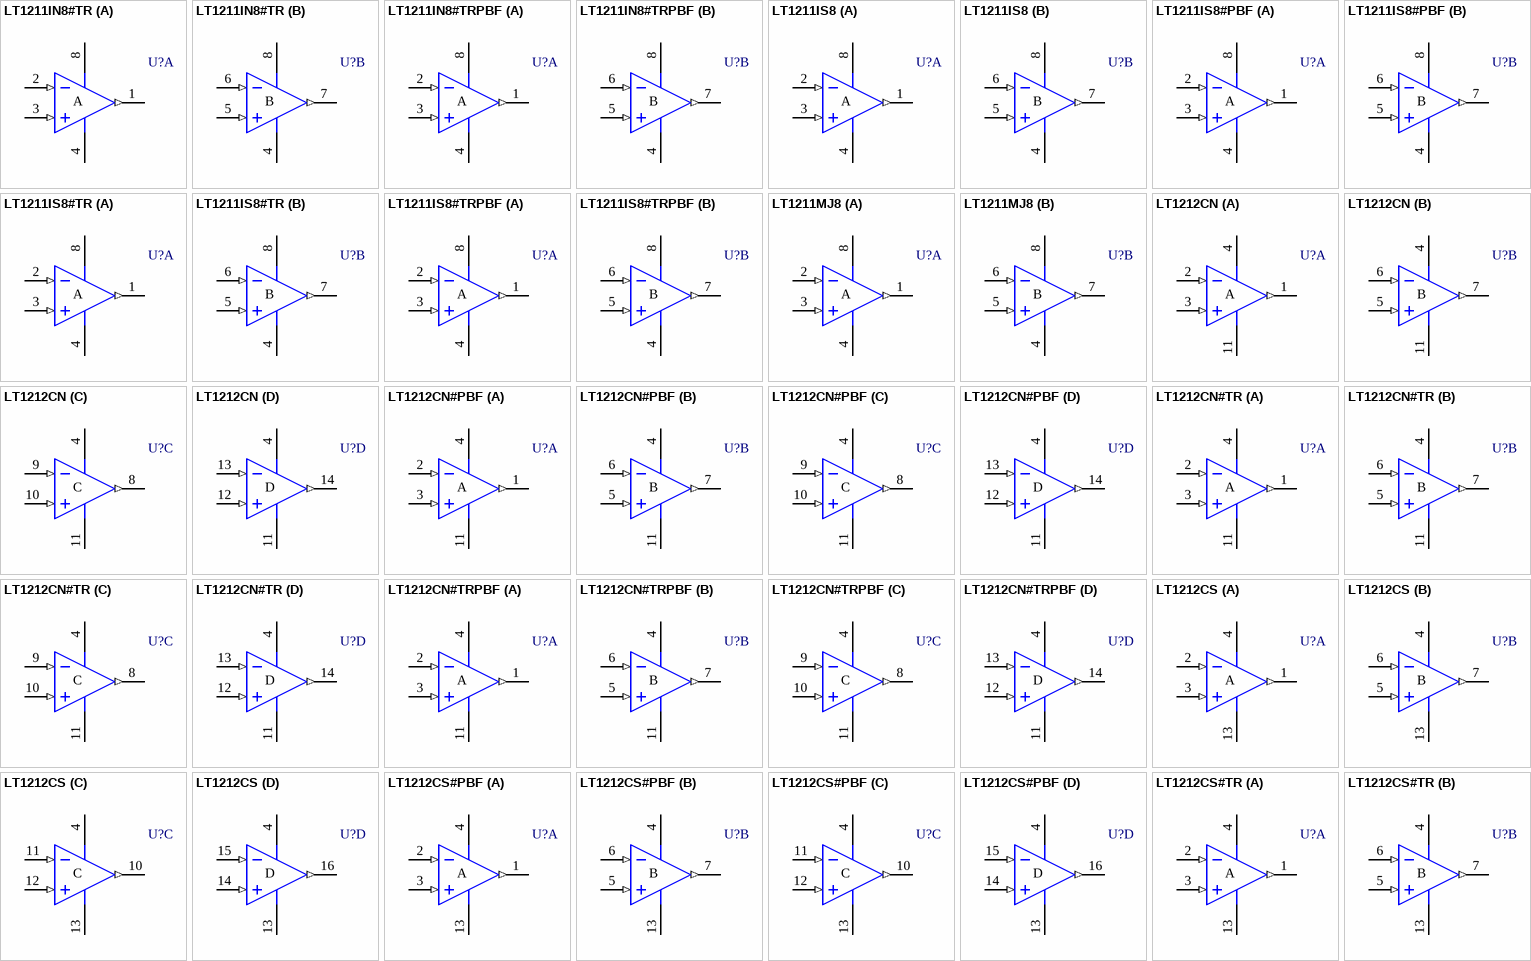
[diagram p33: symbols LT1211IN8#TR to LT1212CS#TR]

## LT1211IN8#TR
designator U?
14MHz, 7V/µs, Single Supply Dual Precision Operational Amplifier; Note: 763; Published: 8-Jun-2000; LatestRevisionDate: 29-May-2009; LatestRevisionNote: Component Body Added.; DatasheetVersion: 1996; PackageVersion: N8 1002; PackageReference: N8; Publisher: Altium Limited; PackageDescription: DIP, Plastic, 8-Pin, Row Spacing 7.62 mm, Pitch 2.54 mm; ComponentLink1Description: Manufacturer Link; ComponentLink1URL: http://www.linear.com/; ComponentLink2Description: Datasheet; ComponentLink2URL: http://www.linear.com/pc/downloadDocument.do?navId=H0,C1,C1154,C1009,C1021,P1407,D1061
footprint N8 (DIP, 8-Leads, Row Spacing 7.62mm, Pitch 2.54mm, Body 9.78x6.48mm)
3D model N8 (DIP, Plastic, 8-Pin, Row Spacing 7.62 mm, Pitch 2.54 mm)
pins on every part: 4 V- (power), 8 V+ (power)
part A pins: 1 OUT (out), 2 IN- (in), 3 IN+ (in)
part B pins: 5 IN+ (in), 6 IN- (in), 7 OUT (out)
part A text: A
part B text: B

## LT1211IN8#TRPBF
designator U?
14MHz, 7V/µs, Single Supply Dual Precision Operational Amplifier; Note: 765; Published: 8-Jun-2000; LatestRevisionDate: 29-May-2009; LatestRevisionNote: Component Body Added.; DatasheetVersion: 1996; PackageVersion: N8 1002; PackageReference: N8; Publisher: Altium Limited; PackageDescription: DIP, Plastic, 8-Pin, Row Spacing 7.62 mm, Pitch 2.54 mm; ComponentLink1Description: Manufacturer Link; ComponentLink1URL: http://www.linear.com/; ComponentLink2Description: Datasheet; ComponentLink2URL: http://www.linear.com/pc/downloadDocument.do?navId=H0,C1,C1154,C1009,C1021,P1407,D1061
footprint N8 (DIP, 8-Leads, Row Spacing 7.62mm, Pitch 2.54mm, Body 9.78x6.48mm)
3D model N8 (DIP, Plastic, 8-Pin, Row Spacing 7.62 mm, Pitch 2.54 mm)
pins on every part: 4 V- (power), 8 V+ (power)
part A pins: 1 OUT (out), 2 IN- (in), 3 IN+ (in)
part B pins: 5 IN+ (in), 6 IN- (in), 7 OUT (out)
part A text: A
part B text: B

## LT1211IS8
designator U?
14MHz, 7V/µs, Single Supply Dual Precision Operational Amplifier; Note: 766; Published: 8-Jun-2000; LatestRevisionDate: 13-Apr-2006; LatestRevisionNote: IPC-7351 Footprint Added.; DatasheetVersion: 1996; PackageReference: S8; Publisher: Altium Limited; PackageDescription: 8-Pin Small Outline Integrated Circuit 1.27 mm Pitch; Code_JEDEC: MS-012-AA; Code_IPC: SOIC127P600-8; ComponentLink1Description: Manufacturer Link; ComponentLink1URL: http://www.linear.com/; ComponentLink2Description: Datasheet; ComponentLink2URL: http://www.linear.com/pc/downloadDocument.do?navId=H0,C1,C1154,C1009,C1021,P1407,D1061
footprint S8_N (SOIC, 8-Leads, Body 4.9x3.9mm, Pitch 1.27mm, IPC Medium Density)
footprint S8_L (SOIC, 8-Leads, Body 4.9x3.9mm, Pitch 1.27mm, IPC High Density)
footprint S8_M (SOIC, 8-Leads, Body 4.9x3.9mm, Pitch 1.27mm, IPC Low Density)
3D model S8 (8-Pin Small Outline Integrated Circuit 1.27 mm Pitch)
pins on every part: 4 V- (power), 8 V+ (power)
part A pins: 1 OUT (out), 2 IN- (in), 3 IN+ (in)
part B pins: 5 IN+ (in), 6 IN- (in), 7 OUT (out)
part A text: A
part B text: B

## LT1211IS8#PBF
designator U?
14MHz, 7V/µs, Single Supply Dual Precision Operational Amplifier; Note: 768; Published: 8-Jun-2000; LatestRevisionDate: 13-Apr-2006; LatestRevisionNote: IPC-7351 Footprint Added.; DatasheetVersion: 1996; PackageReference: S8; Publisher: Altium Limited; PackageDescription: 8-Pin Small Outline Integrated Circuit 1.27 mm Pitch; Code_JEDEC: MS-012-AA; Code_IPC: SOIC127P600-8; ComponentLink1Description: Manufacturer Link; ComponentLink1URL: http://www.linear.com/; ComponentLink2Description: Datasheet; ComponentLink2URL: http://www.linear.com/pc/downloadDocument.do?navId=H0,C1,C1154,C1009,C1021,P1407,D1061
footprint S8_N (SOIC, 8-Leads, Body 4.9x3.9mm, Pitch 1.27mm, IPC Medium Density)
footprint S8_L (SOIC, 8-Leads, Body 4.9x3.9mm, Pitch 1.27mm, IPC High Density)
footprint S8_M (SOIC, 8-Leads, Body 4.9x3.9mm, Pitch 1.27mm, IPC Low Density)
3D model S8 (8-Pin Small Outline Integrated Circuit 1.27 mm Pitch)
pins on every part: 4 V- (power), 8 V+ (power)
part A pins: 1 OUT (out), 2 IN- (in), 3 IN+ (in)
part B pins: 5 IN+ (in), 6 IN- (in), 7 OUT (out)
part A text: A
part B text: B

## LT1211IS8#TR
designator U?
14MHz, 7V/µs, Single Supply Dual Precision Operational Amplifier; Note: 767; Published: 8-Jun-2000; LatestRevisionDate: 13-Apr-2006; LatestRevisionNote: IPC-7351 Footprint Added.; DatasheetVersion: 1996; PackageReference: S8; Publisher: Altium Limited; PackageDescription: 8-Pin Small Outline Integrated Circuit 1.27 mm Pitch; Code_JEDEC: MS-012-AA; Code_IPC: SOIC127P600-8; ComponentLink1Description: Manufacturer Link; ComponentLink1URL: http://www.linear.com/; ComponentLink2Description: Datasheet; ComponentLink2URL: http://www.linear.com/pc/downloadDocument.do?navId=H0,C1,C1154,C1009,C1021,P1407,D1061
footprint S8_N (SOIC, 8-Leads, Body 4.9x3.9mm, Pitch 1.27mm, IPC Medium Density)
footprint S8_L (SOIC, 8-Leads, Body 4.9x3.9mm, Pitch 1.27mm, IPC High Density)
footprint S8_M (SOIC, 8-Leads, Body 4.9x3.9mm, Pitch 1.27mm, IPC Low Density)
3D model S8 (8-Pin Small Outline Integrated Circuit 1.27 mm Pitch)
pins on every part: 4 V- (power), 8 V+ (power)
part A pins: 1 OUT (out), 2 IN- (in), 3 IN+ (in)
part B pins: 5 IN+ (in), 6 IN- (in), 7 OUT (out)
part A text: A
part B text: B

## LT1211IS8#TRPBF
designator U?
14MHz, 7V/µs, Single Supply Dual Precision Operational Amplifier; Note: 769; Published: 8-Jun-2000; LatestRevisionDate: 13-Apr-2006; LatestRevisionNote: IPC-7351 Footprint Added.; DatasheetVersion: 1996; PackageReference: S8; Publisher: Altium Limited; PackageDescription: 8-Pin Small Outline Integrated Circuit 1.27 mm Pitch; Code_JEDEC: MS-012-AA; Code_IPC: SOIC127P600-8; ComponentLink1Description: Manufacturer Link; ComponentLink1URL: http://www.linear.com/; ComponentLink2Description: Datasheet; ComponentLink2URL: http://www.linear.com/pc/downloadDocument.do?navId=H0,C1,C1154,C1009,C1021,P1407,D1061
footprint S8_N (SOIC, 8-Leads, Body 4.9x3.9mm, Pitch 1.27mm, IPC Medium Density)
footprint S8_L (SOIC, 8-Leads, Body 4.9x3.9mm, Pitch 1.27mm, IPC High Density)
footprint S8_M (SOIC, 8-Leads, Body 4.9x3.9mm, Pitch 1.27mm, IPC Low Density)
3D model S8 (8-Pin Small Outline Integrated Circuit 1.27 mm Pitch)
pins on every part: 4 V- (power), 8 V+ (power)
part A pins: 1 OUT (out), 2 IN- (in), 3 IN+ (in)
part B pins: 5 IN+ (in), 6 IN- (in), 7 OUT (out)
part A text: A
part B text: B

## LT1211MJ8
designator U?
14MHz, 7V/µs, Single Supply Dual Precision Operational Amplifier; Note: 770; Published: 8-Jun-2000; LatestRevisionDate: 29-May-2009; LatestRevisionNote: Component Body Added.; DatasheetVersion: 1996; PackageVersion: J8 0801; PackageReference: J8; Publisher: Altium Limited; PackageDescription: DIP, Ceramic, 8-Pin, Row Spacing 7.62 mm, Pitch 2.54 mm; ComponentLink1Description: Manufacturer Link; ComponentLink1URL: http://www.linear.com/; ComponentLink2Description: Datasheet; ComponentLink2URL: http://www.linear.com/pc/downloadDocument.do?navId=H0,C1,C1154,C1009,C1021,P1407,D1061
footprint J8 (DIP, 8-Leads, Row Spacing 7.62mm, Pitch 2.54mm, Body 9.89x6.73mm)
3D model J8 (DIP, Ceramic, 8-Pin, Row Spacing 7.62 mm, Pitch 2.54 mm)
pins on every part: 4 V- (power), 8 V+ (power)
part A pins: 1 OUT (out), 2 IN- (in), 3 IN+ (in)
part B pins: 5 IN+ (in), 6 IN- (in), 7 OUT (out)
part A text: A
part B text: B

## LT1212CN
designator U?
14MHz, 7V/µs, Single Supply Quad Precision Operational Amplifier; Note: 771; Published: 8-Jun-2000; LatestRevisionDate: 29-May-2009; LatestRevisionNote: Component Body Added.; DatasheetVersion: 1996; PackageVersion: N14 1103; PackageReference: N14; Publisher: Altium Limited; PackageDescription: DIP, Plastic, 14-Pin, Row Spacing 7.62 mm, Pitch 2.54 mm; ComponentLink1Description: Manufacturer Link; ComponentLink1URL: http://www.linear.com/; ComponentLink2Description: Datasheet; ComponentLink2URL: http://www.linear.com/pc/downloadDocument.do?navId=H0,C1,C1154,C1009,C1021,P1407,D1061
footprint N14 (DIP, 14-Leads, Row Spacing 7.62mm, Pitch 2.54mm, Body 19.18x6.48mm)
3D model N14 (DIP, Plastic, 14-Pin, Row Spacing 7.62 mm, Pitch 2.54 mm)
pins on every part: 4 V+ (power), 11 V- (power)
part A pins: 1 OUT (out), 2 IN- (in), 3 IN+ (in)
part B pins: 5 IN+ (in), 6 IN- (in), 7 OUT (out)
part C pins: 8 OUT (out), 9 IN- (in), 10 IN+ (in)
part D pins: 12 IN+ (in), 13 IN- (in), 14 OUT (out)
part A text: A
part B text: B
part C text: C
part D text: D

## LT1212CN#PBF
designator U?
14MHz, 7V/µs, Single Supply Quad Precision Operational Amplifier; Note: 773; Published: 8-Jun-2000; LatestRevisionDate: 29-May-2009; LatestRevisionNote: Component Body Added.; DatasheetVersion: 1996; PackageVersion: N14 1103; PackageReference: N14; Publisher: Altium Limited; PackageDescription: DIP, Plastic, 14-Pin, Row Spacing 7.62 mm, Pitch 2.54 mm; ComponentLink1Description: Manufacturer Link; ComponentLink1URL: http://www.linear.com/; ComponentLink2Description: Datasheet; ComponentLink2URL: http://www.linear.com/pc/downloadDocument.do?navId=H0,C1,C1154,C1009,C1021,P1407,D1061
footprint N14 (DIP, 14-Leads, Row Spacing 7.62mm, Pitch 2.54mm, Body 19.18x6.48mm)
3D model N14 (DIP, Plastic, 14-Pin, Row Spacing 7.62 mm, Pitch 2.54 mm)
pins on every part: 4 V+ (power), 11 V- (power)
part A pins: 1 OUT (out), 2 IN- (in), 3 IN+ (in)
part B pins: 5 IN+ (in), 6 IN- (in), 7 OUT (out)
part C pins: 8 OUT (out), 9 IN- (in), 10 IN+ (in)
part D pins: 12 IN+ (in), 13 IN- (in), 14 OUT (out)
part A text: A
part B text: B
part C text: C
part D text: D

## LT1212CN#TR
designator U?
14MHz, 7V/µs, Single Supply Quad Precision Operational Amplifier; Note: 772; Published: 8-Jun-2000; LatestRevisionDate: 29-May-2009; LatestRevisionNote: Component Body Added.; DatasheetVersion: 1996; PackageVersion: N14 1103; PackageReference: N14; Publisher: Altium Limited; PackageDescription: DIP, Plastic, 14-Pin, Row Spacing 7.62 mm, Pitch 2.54 mm; ComponentLink1Description: Manufacturer Link; ComponentLink1URL: http://www.linear.com/; ComponentLink2Description: Datasheet; ComponentLink2URL: http://www.linear.com/pc/downloadDocument.do?navId=H0,C1,C1154,C1009,C1021,P1407,D1061
footprint N14 (DIP, 14-Leads, Row Spacing 7.62mm, Pitch 2.54mm, Body 19.18x6.48mm)
3D model N14 (DIP, Plastic, 14-Pin, Row Spacing 7.62 mm, Pitch 2.54 mm)
pins on every part: 4 V+ (power), 11 V- (power)
part A pins: 1 OUT (out), 2 IN- (in), 3 IN+ (in)
part B pins: 5 IN+ (in), 6 IN- (in), 7 OUT (out)
part C pins: 8 OUT (out), 9 IN- (in), 10 IN+ (in)
part D pins: 12 IN+ (in), 13 IN- (in), 14 OUT (out)
part A text: A
part B text: B
part C text: C
part D text: D

## LT1212CN#TRPBF
designator U?
14MHz, 7V/µs, Single Supply Quad Precision Operational Amplifier; Note: 774; Published: 8-Jun-2000; LatestRevisionDate: 29-May-2009; LatestRevisionNote: Component Body Added.; DatasheetVersion: 1996; PackageVersion: N14 1103; PackageReference: N14; Publisher: Altium Limited; PackageDescription: DIP, Plastic, 14-Pin, Row Spacing 7.62 mm, Pitch 2.54 mm; ComponentLink1Description: Manufacturer Link; ComponentLink1URL: http://www.linear.com/; ComponentLink2Description: Datasheet; ComponentLink2URL: http://www.linear.com/pc/downloadDocument.do?navId=H0,C1,C1154,C1009,C1021,P1407,D1061
footprint N14 (DIP, 14-Leads, Row Spacing 7.62mm, Pitch 2.54mm, Body 19.18x6.48mm)
3D model N14 (DIP, Plastic, 14-Pin, Row Spacing 7.62 mm, Pitch 2.54 mm)
pins on every part: 4 V+ (power), 11 V- (power)
part A pins: 1 OUT (out), 2 IN- (in), 3 IN+ (in)
part B pins: 5 IN+ (in), 6 IN- (in), 7 OUT (out)
part C pins: 8 OUT (out), 9 IN- (in), 10 IN+ (in)
part D pins: 12 IN+ (in), 13 IN- (in), 14 OUT (out)
part A text: A
part B text: B
part C text: C
part D text: D